# Altium footprint library Разное.PcbLib: 12 footprints
Each footprint in its own frame and in the unit in brackets; x right, y up, seen from the top. Pads: shape width x height; smd on the part's side, far side on the other; paste and mask are expansions set on the pad; w line width, h text height; cw(c..) or ccw(c..) is an arc to the next point about the centre after c.
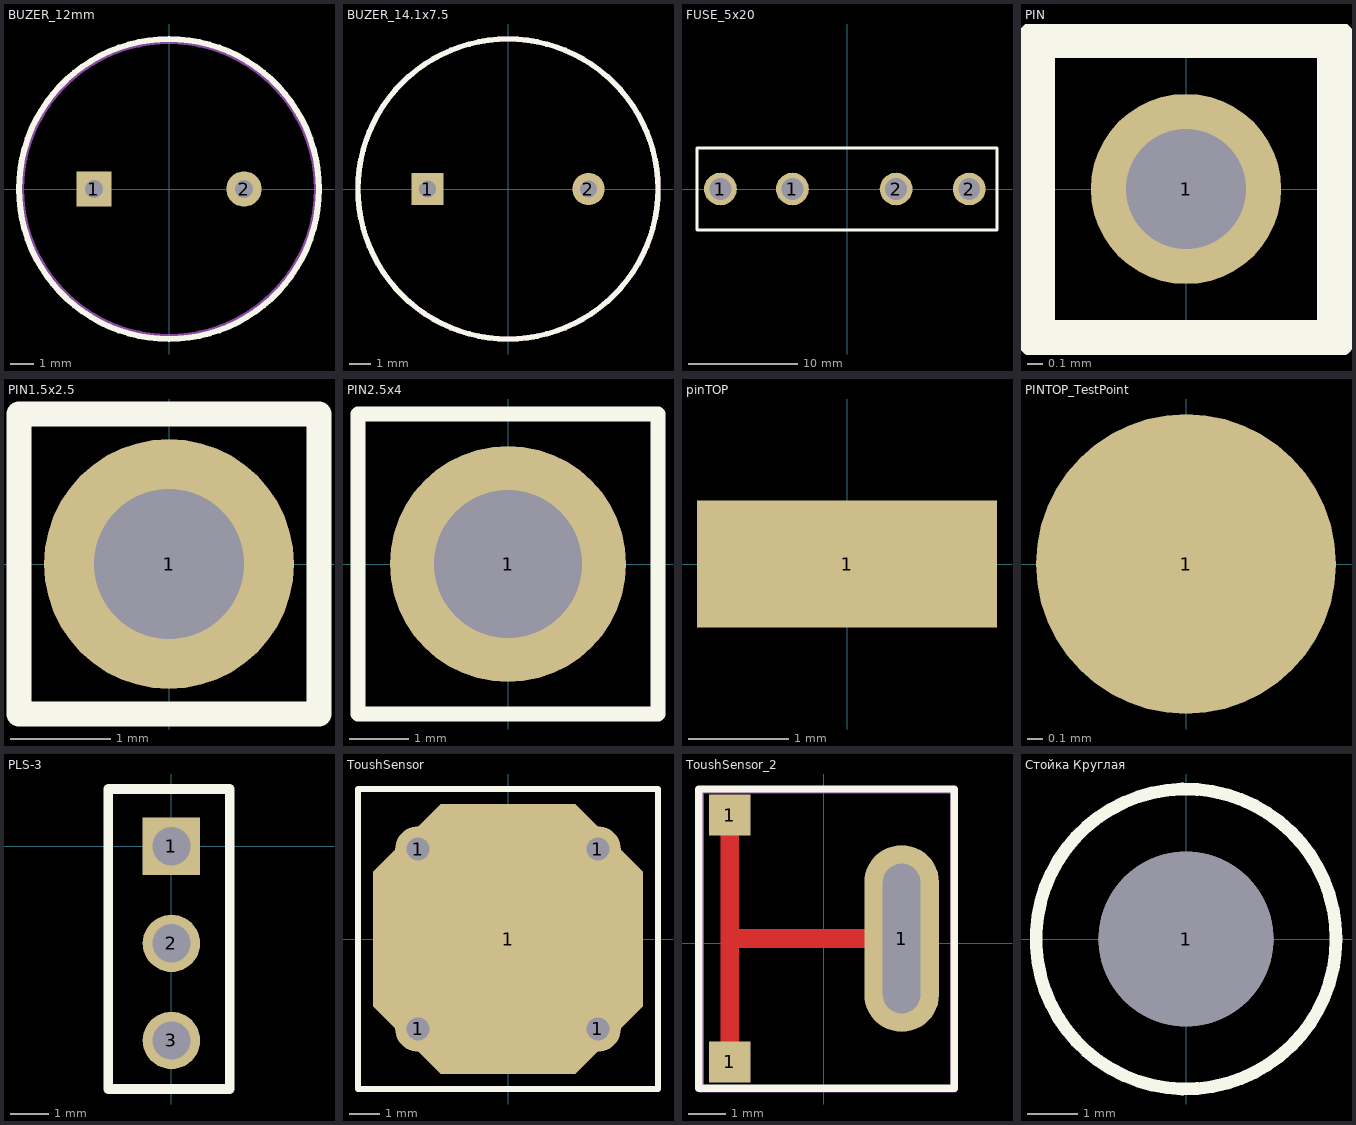
[diagram p0: the footprints below, top view; thin cyan lines are the x and y axes]

## BUZER_12mm [mil]
pads (2):
  rect 60x60 hole 30: 1(-127.95,0)
  round 60 hole 30: 2(127.95,0)
Top Overlay:
  circle w10: c0,0 r255.91
Top ASSY:
  circle w10: c0,0 r252.09
  text ".Designator" at -118.11,0 h60
3D body "BUZZER_12mm.STEP": height 354.33, standoff -118.11, extent -236.22,-236.22 236.23,236.22

## BUZER_14.1x7.5 [mil]
pads (2):
  rect 60x60 hole 31.5: 1(-150,0)
  round 60 hole 31.5: 2(150,0)
Top Overlay:
  circle w10: c0,0 r279.53
Top ASSY:
  circle w10: c0,0 r279.53
  text ".Designator" at -118.11,0 h60
3D body "Buzzer14.1x7.5.STEP": height 295.28, standoff -78.74, extent -277.56,-277.56 277.56,277.56

## FUSE_5x20 [mm]
pads (4):
  round 3 hole 2: 1(-11.6,0) 1(-5,0) 2(4.5,0) 2(11.2,0)
Top Overlay:
  lines w0.254: -13.75,-3.75 -13.75,3.75 13.75,3.75 13.75,-3.75 -13.75,-3.75
3D body "User Library-Clips FC-201 with fuse 5x20.STEP": height 9.13, standoff -3.06, extent -11.889,-3.173 11.489,3.174

## PIN [mm]
pads (1):
  round 1.27 hole 0.8: 1(0,0)
Top Overlay:
  lines w0.254: -1,-1 1,-1 1,1 -1,1 -1,-1

## PIN1.5x2.5 [mm]
pads (1):
  round 2.5 hole 1.5: 1(0,0)
Top Overlay:
  lines w0.254: -1.5,-1.5 -1.5,1.5 1.5,1.5 1.5,-1.5 -1.5,-1.5

## PIN2.5x4 [mm]
pads (1):
  round 4 hole 2.5: 1(0,0)
Top Overlay:
  lines w0.254: -2.54,-2.54 2.54,-2.54 2.54,2.54 -2.54,2.54 -2.54,-2.54
Top ASSY:
  lines w0.1: -2.54,-2.54 -2.54,2.54 2.54,2.54 2.54,-2.54 -2.54,-2.54
  text ".Designator" at -2.54,0 h1

## pinTOP [mm]
pads (1):
  rect 3x1.27 smd: 1(0,0)

## PINTOP_TestPoint [mm]
pads (1):
  round 2 smd: 1(0,0)

## PLS-3 [mm]
pads (3):
  rect 1.5x1.5 hole 1: 1(0,0)
  round 1.5 hole 1: 2(0,-2.54) 3(0,-5.08)
Top Overlay:
  lines w0.254: -1.65,-6.35 1.524,-6.35 1.524,1.497 -1.65,1.497 -1.65,-6.35
3D body "User Library-PLS-3.STEP": height 8.54, standoff -3, extent -1.27,-6.35 1.27,1.27

## ToushSensor [mil]
pads (5):
  round 60 hole 30: 1(-118.11,-118.11) 1(-118.11,118.11) 1(118.11,-118.11) 1(118.11,118.11)
  oct 354.33x354.33 all layers, no hole: 1(0,0)
Top Overlay:
  lines w7.87: -196.85,-196.85 -196.85,196.85 196.85,196.85 196.85,-196.85 -196.85,-196.85

## ToushSensor_2 [mm]
pads (3):
  rect 1.1x1.1 smd: 1(-2.509,-3.175) 1(-2.509,3.425)
  oval 2x5 hole 1 slot 4 at 90 deg: 1(2.091,0.125)
Top Layer:
  lines w0.5: -2.509,-3.175 -2.509,0.125 ; -2.509,3.425 -2.509,0.125 ; 2.091,0.125 -2.509,0.125
Top Overlay:
  lines w0.2: -3.334,-3.875 3.5,-3.875 3.5,4.125 -3.334,4.125 -3.334,-3.875
Top ASSY:
  lines w0.2: -3.3,-3.9 3.5,-3.9 3.5,4.1 -3.3,4.1 -3.3,-3.9
  text ".Designator" at -0.6,1 h1.52

## Стойка Круглая [mm]
pads (1):
  round 3.5 hole 3.5 unplated: 1(0,0)
Top Overlay:
  circle w0.254: c0,0 r3.008